# Altium schematic symbol library 5040500891.SchLib: 1 symbol
Pins are listed as number, name and electrical type; pins without a type are passive.

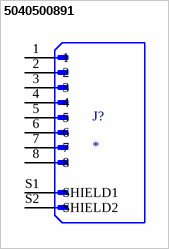
[diagram p0: symbol 5040500891]

## 5040500891
designator J?
MP: 5040500891; Value: *; Availability: Unavailable; Price: None; Package: None
footprint MOLEX_5040500891
pins: 1, 2, 3, 4, 5, 6, 7, 8, S1 SHIELD1, S2 SHIELD2